# Altium footprint library RP2040.PcbLib: 1 footprints
Each footprint in its own frame and in the unit in brackets; x right, y up, seen from the top. Pads: shape width x height; smd on the part's side, far side on the other; paste and mask are expansions set on the pad; w line width, h text height; cw(c..) or ccw(c..) is an arc to the next point about the centre after c.
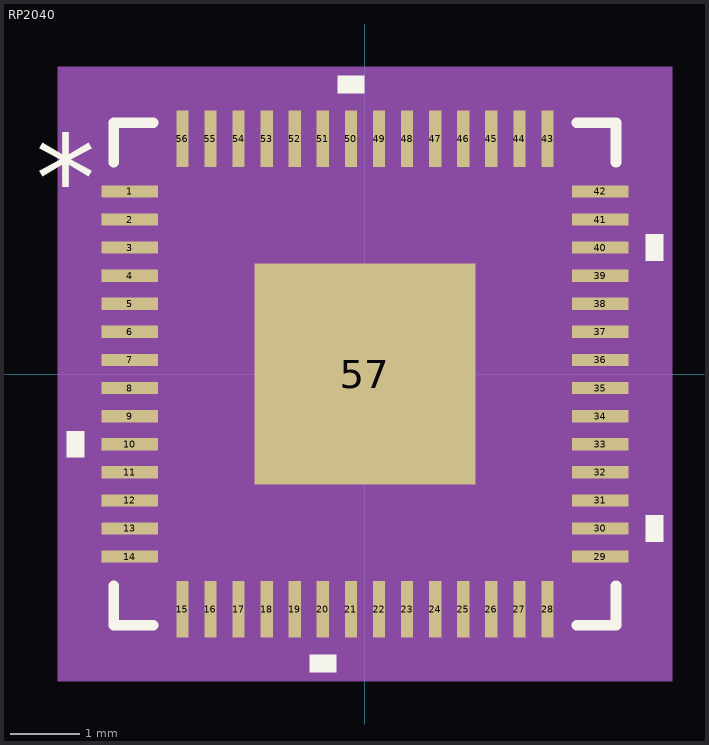
[diagram p0: the footprint, top view; thin cyan lines are the x and y axes]

## RP2040 [mil] "RP2040"
pads (57):
  rect 32x7 smd paste+0 mask+0: 1(-134,104) 2(-134,88) 3(-134,72) 4(-134,56) 5(-134,40) 6(-134,24) 7(-134,8) 8(-134,-8) 9(-134,-24) 10(-134,-40) 11(-134,-56) 12(-134,-72) 13(-134,-88) 14(-134,-104) 29(134,-104) 30(134,-88) 31(134,-72) 32(134,-56) 33(134,-40) 34(134,-24) 35(134,-8) 36(134,8) 37(134,24) 38(134,40) 39(134,56) 40(134,72) 41(134,88) 42(134,104)
  rect 7x32 smd paste+0 mask+0: 15(-104,-134) 16(-88,-134) 17(-72,-134) 18(-56,-134) 19(-40,-134) 20(-24,-134) 21(-8,-134) 22(8,-134) 23(24,-134) 24(40,-134) 25(56,-134) 26(72,-134) 27(88,-134) 28(104,-134) 43(104,134) 44(88,134) 45(72,134) 46(56,134) 47(40,134) 48(24,134) 49(8,134) 50(-8,134) 51(-24,134) 52(-40,134) 53(-56,134) 54(-72,134) 55(-88,134) 56(-104,134)
  rect 126x126 smd paste-62.5 mask+0: 57(0,0)
Top Overlay:
  region: -160,-32.5 -170,-32.5 -170,-47.5 -160,-47.5
  region: -16.5,-160 -31.5,-160 -31.5,-170 -16.5,-170
  region: 160,-80.5 170,-80.5 170,-95.5 160,-95.5
  region: 160,79.5 170,79.5 170,64.5 160,64.5
  region: -0.5,160 -15.5,160 -15.5,170 -0.5,170
  lines w6: -143,-120.6 -143,-143 -120.6,-143 ; -143,120.6 -143,143 -120.6,143 ; 120.6,-143 143,-143 143,-120.6 ; 120.6,143 143,143 143,120.6
  text "*" at -187.5,87 h50
Top Paste:
  region: -3.94,59.06 -59.06,59.06 -59.06,3.94 -3.94,3.94
  region: -3.94,-3.94 -59.06,-3.94 -59.06,-59.06 -3.94,-59.06
  region: 59.06,59.06 3.94,59.06 3.94,3.94 59.06,3.94
  region: 59.06,-3.94 3.94,-3.94 3.94,-59.06 59.06,-59.06
Mechanical 5:
  region: 175,-175 -175,-175 -175,175 175,175
Mechanical 13:
  lines w1: -138,88 -88,138 ; -138,-138 138,-138 138,138 -138,138 -138,-138 ; -138,-108.5 -138,-99.5 -138,-108.5 ; -138,-92.5 -138,-83.5 -138,-92.5 ; -138,-76.5 -138,-67.5 -138,-76.5 ; -138,-60.5 -138,-51.5 -138,-60.5 ; -138,-44.5 -138,-35.5 -138,-44.5 ; -138,-28.5 -138,-19.5 -138,-28.5 ; -138,-12.5 -138,-3.5 -138,-12.5 ; -138,3.5 -138,12.5 -138,3.5 ; -138,19.5 -138,28.5 -138,19.5 ; -138,35.5 -138,44.5 -138,35.5 ; -138,51.5 -138,60.5 -138,51.5 ; -138,67.5 -138,76.5 -138,67.5 ; -138,83.5 -138,92.5 -138,83.5 ; -138,99.5 -138,108.5 -138,99.5 ; -108.5,-138 -99.5,-138 -108.5,-138 ; -108.5,138 -99.5,138 -108.5,138 ; -92.5,-138 -83.5,-138 -92.5,-138 ; -92.5,138 -83.5,138 -92.5,138 ; -76.5,-138 -67.5,-138 -76.5,-138 ; -76.5,138 -67.5,138 -76.5,138 ; -60.5,-138 -51.5,-138 -60.5,-138 ; -60.5,138 -51.5,138 -60.5,138 ; -44.5,-138 -35.5,-138 -44.5,-138 ; -44.5,138 -35.5,138 -44.5,138 ; -28.5,-138 -19.5,-138 -28.5,-138 ; -28.5,138 -19.5,138 -28.5,138 ; -12.5,-138 -3.5,-138 -12.5,-138 ; -12.5,138 -3.5,138 -12.5,138 ; 3.5,-138 12.5,-138 3.5,-138 ; 3.5,138 12.5,138 3.5,138 ; 19.5,-138 28.5,-138 19.5,-138 ; 19.5,138 28.5,138 19.5,138 ; 35.5,-138 44.5,-138 35.5,-138 ; 35.5,138 44.5,138 35.5,138 ; 51.5,-138 60.5,-138 51.5,-138 ; 51.5,138 60.5,138 51.5,138 ; 67.5,-138 76.5,-138 67.5,-138 ; 67.5,138 76.5,138 67.5,138 ; 83.5,-138 92.5,-138 83.5,-138 ; 83.5,138 92.5,138 83.5,138 ; 99.5,-138 108.5,-138 99.5,-138 ; 99.5,138 108.5,138 99.5,138 ; 138,-108.5 138,-99.5 138,-108.5 ; 138,-92.5 138,-83.5 138,-92.5 ; 138,-76.5 138,-67.5 138,-76.5 ; 138,-60.5 138,-51.5 138,-60.5 ; 138,-44.5 138,-35.5 138,-44.5 ; 138,-28.5 138,-19.5 138,-28.5 ; 138,-12.5 138,-3.5 138,-12.5 ; 138,3.5 138,12.5 138,3.5 ; 138,19.5 138,28.5 138,19.5 ; 138,35.5 138,44.5 138,35.5 ; 138,51.5 138,60.5 138,51.5 ; 138,67.5 138,76.5 138,67.5 ; 138,83.5 138,92.5 138,83.5 ; 138,99.5 138,108.5 138,99.5
  text "*" at -130.5,87 h50
Mechanical 15:
  region: -117.5,-148 -148,-148 -148,-117.5 -160,-117.5 -160,117.5 -148,117.5 -148,148 -117.5,148 -117.5,160 117.5,160 117.5,148 148,148 148,117.5 160,117.5 160,-117.5 148,-117.5 148,-148 117.5,-148 117.5,-160 -117.5,-160
  lines w6: -160,-117.5 -148,-117.5 -148,-148 -117.5,-148 -117.5,-160 117.5,-160 117.5,-148 148,-148 148,-117.5 160,-117.5 160,117.5 148,117.5 148,148 117.5,148 117.5,160 -117.5,160 -117.5,148 -148,148 -148,117.5 -160,117.5 -160,-117.5
3D body "IC57_RP2040.step": height 35.12, standoff 0, extent -137.99,-137.99 137.99,137.99